# Altium schematic symbol library Discrete.SchLib: 66 symbols
Pins are listed as number, name and electrical type; pins without a type are passive.

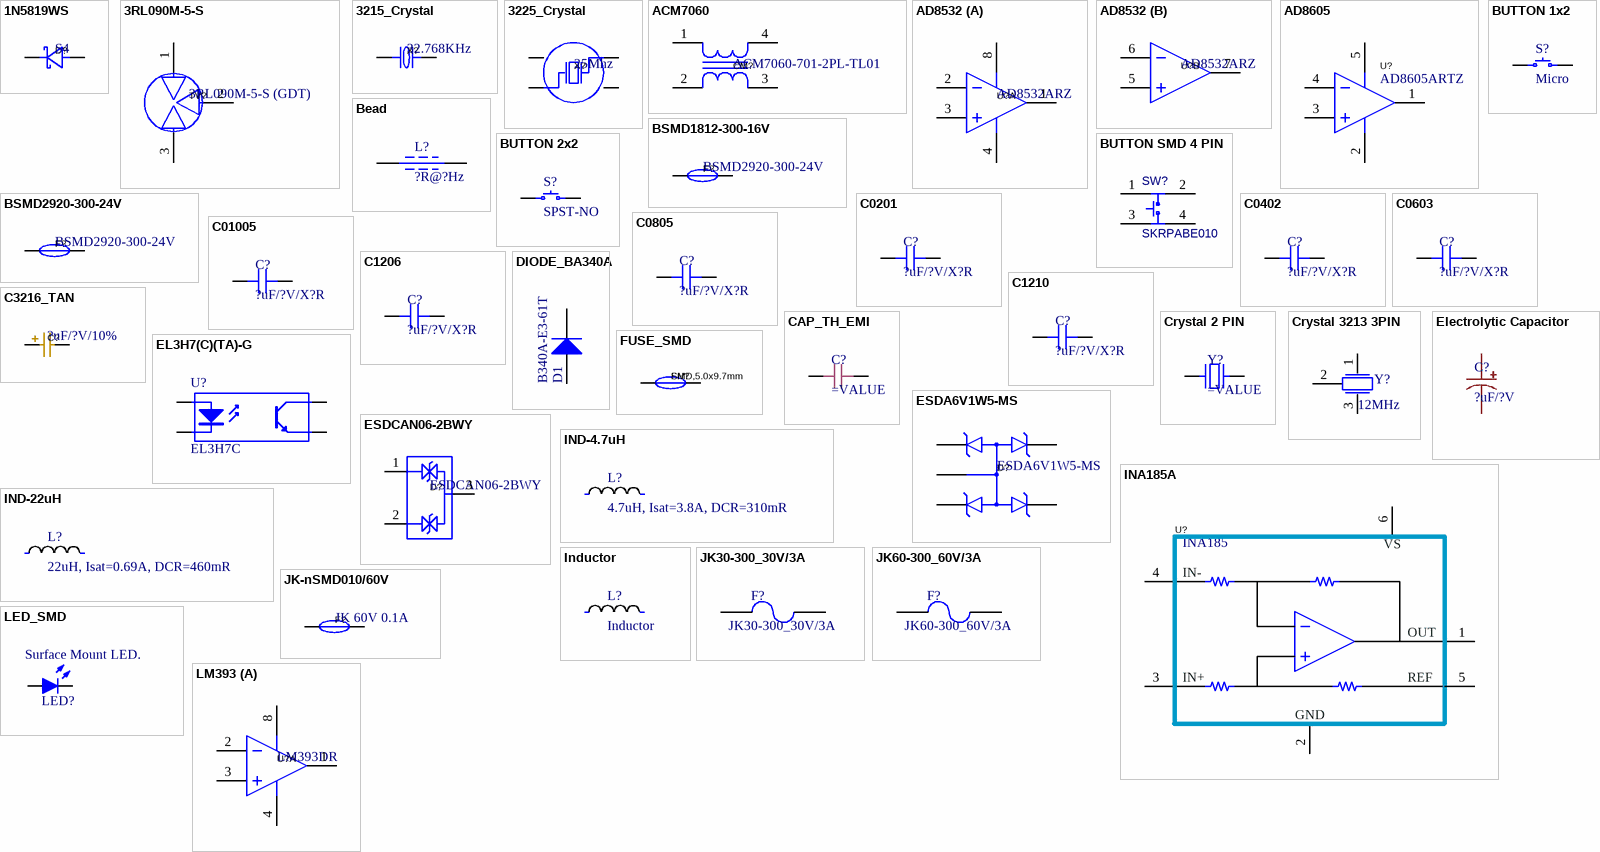
[diagram p0: symbols 1N5819WS to LM393]

## 1N5819WS
designator D?, comment S4
Schottky Diode 1N5819 , S4; Manufacturer: JSMSEMI(杰盛微); Symbol: 1N5819WS S4; Device: 1N5819WS S4_C2927280; Add into BOM: yes; Diode Configuration: 独立式; Forward Voltage (Vf@If): 600mV@200mA; Reverse Voltage (Vr): 40V; Average Rectified Current (Io): 350mA; Reverse Leakage Current (Ir): 5uA@30V; Supplier: LCSC; Supplier Part: C2927280; Manufacturer Part: 1N5819WS S4; JLCPCB Part Class: Extended Part; LCSC Part Name: 电压:40V 电流:350mA; Supplier Footprint: SOD-323; Datasheet: https://atta.szlcsc.com/upload/public/pdf/source/20211230/020DF3ABCB41CBA5E28580D63AFB2CA3.pdf; Convert to PCB: yes; LCSC#: *
footprint SOD-323
pins: 1 C, 2 A

## 3RL090M-5-S
designator TV?, comment 3RL090M-5-S (GDT)
Gas Discharge Tube; Manufacturer: Brightking(君耀电子); Add into BOM: yes; Number of Poles: 3; DC Spark-over Voltage: 90V; Tolerance: ±20%; Nominal Impulse Discharge Current: 5kA; Maximum Capacitance @ 1MHz: 2pF; Name: 3RL090M-5-S; Symbol: 3RL090M-5-S; Device: 3RL090M-5-S; LCSC Part Name: 90V 5kA 3端贴片GDT; Supplier Part: C78322; Manufacturer Part: 3RL090M-5-S; Supplier Footprint: SMD,5x6.6mm; JLCPCB Part Class: Extended Part; Datasheet: https://atta.szlcsc.com/upload/public/pdf/source/20160709/1468031850741.pdf; Supplier: LCSC; Convert to PCB: yes; LCSC#: *
footprint DIO-DT-SMD
pins: 1, 2, 3

## 3215_Crystal
designator X?, comment 32.768KHz
3215 Surface mount crystal oscillator.; Manufacturer: EPSON(爱普生); Manufacturer Part: Q13FC13500004; Symbol: Q13FC1350000400; Device: Q13FC13500004_C32346; Add into BOM: yes; Crystal Type: 贴片晶振; Normal temperature Frequency Tolerance: ±20ppm; External load capacitor: 12.5pF; Equivalent Series Resistance (ESR): 70kΩ; LCSC Part Name: 32.768kHz ±20ppm 12.5pF; Supplier Part: C32346; Supplier Footprint: SMD3215-2P; JLCPCB Part Class: Basic Part; Datasheet: https://atta.szlcsc.com/upload/public/pdf/source/20190108/C32346_746D6B07EAF90824457A96480007685F.pdf; Supplier: LCSC; Convert to PCB: yes; Value: 32.768kHz; Operating Temperature: -40℃~+85℃; LCSC#: *
footprint 3215_Crystal
pins: 1, 2

## 3225_Crystal
designator X?, comment 25Mhz
25Mhz 3225 surface mount crystal oscillator.; Manufacturer: EPSON(爱普生); Symbol: X1E000021013912; Device: X1E0000210139; Add into BOM: yes; Crystal Type: 贴片晶振; Normal temperature Frequency Tolerance: ±10ppm; External load capacitor: 12pF; Equivalent Series Resistance (ESR): 40Ω; LCSC Part Name: 25MHz ±10ppm 12pF; Supplier Part: C91750; Manufacturer Part: X1E0000210139; Supplier Footprint: SMD3225-4P; JLCPCB Part Class: Extended Part; Datasheet: https://atta.szlcsc.com/upload/public/pdf/source/20180822/C255942_D265278E6344B989D9430C320788A855.pdf; Supplier: LCSC; Convert to PCB: yes; Value: 25MHz; Operating Temperature: -40℃~+85℃; LCSC#: *
footprint 3225_CRYSTAL
pins: 1 OSC1, 2 GND, 3 OSC2, 4 GND

## ACM7060
designator CM?, comment ACM7060-701-2PL-TL01
Common mode choke Rated 80V 5A.; Manufacturer: TDK; Add into BOM: yes; Number of Lines: 2; Withstanding Voltage: 125V; Current Rating: 4A; Impedance @ Frequency: 700Ω@100MHz; DC Resistance (DCR): 15mΩ; Symbol: ACM7060-701-2PL-TL01; Device: ACM7060-701-2PL-TL01; LCSC Part Name: 两路 贴片共模滤波器 阻抗700Ω@100MHz; Supplier Part: C78246; Manufacturer Part: ACM7060-701-2PL-TL01; Supplier Footprint: SMD,7x6mm; JLCPCB Part Class: Extended Part; Datasheet: https://atta.szlcsc.com/upload/public/pdf/source/20160920/1474351323872.pdf; Supplier: LCSC; Convert to PCB: yes; Voltage Rating - DC: 80V; Operating Temperature: -40℃~+85℃; LCSC#: *
footprint FILTER-SMD_4P-L7.0-W6.0
pins: 1, 2, 3, 4

## AD8532
designator U?, comment AD8532ARZ
250mA Output , 5V/uS , 750uA per Channel. 3MHz; Manufacturer: MAXIM(美信); Symbol: MAX44248ASA+T; Add into BOM: yes; Number of Circuits: 2; Device: MAX44248ASA+T; LCSC Part Name: MAX44248ASA; Supplier Part: C92065; Manufacturer Part: MAX44248ASA+T; Supplier Footprint: SO-8; JLCPCB Part Class: Extended Part; Datasheet: https://atta.szlcsc.com/upload/public/pdf/source/20170105/1483610783114.pdf; Supplier: LCSC; Convert to PCB: yes; LCSC#: *
footprint SOIC-8
part A pins: 1 OUTA, 2 INA-, 3 INA+, 4 VSS, 8 VDD
part B pins: 5 INB+, 6 INB-, 7 OUTB

## AD8605
designator U?, comment AD8605ARTZ
Precision Op-Amp Vos 65uV 5v/us 10MHz; Manufacturer: ADI; Device: AD8605ARTZ-REEL; Add into BOM: yes; Number of Circuits: 2; Symbol: AD8605ARTZ; LCSC Part Name: AD8605ARTZ-REEL; Supplier Part: C578772; Manufacturer Part: AD8605ARTZ-REEL; Supplier Footprint: SO-8; JLCPCB Part Class: Extended Part; Datasheet: https://www.analog.com/media/en/technical-documentation/data-sheets/AD8605_8606_8608.pdf; Supplier: LCSC; Convert to PCB: yes; LCSC#: *
footprint SOT-23-5
pins: 1 OUTA, 2 VSS, 3 INA+, 4 INA-, 5 VDD

## Bead
designator L?, comment ?R@?Hz
Ferrite Bead.; LCSC#: *
footprint 0603_L
footprint 0805_L
footprint 0402_L
footprint 0201_L
pins: 1, 2

## BSMD1812-300-16V
designator F?, comment BSMD2920-300-24V
Resettable fuse, 16V , 40A max , Residual Current 3A , ,Jump current 6A; LCSC#: C883162
footprint F1812
pins: 1, 2

## BSMD2920-300-24V
designator F?
BSMD2920 SMD Resstable Fuse , Voltage rating 24V , Continous 3A; Add into BOM: yes; Symbol: BSMD2920-300-24V; Device: BSMD2920-300-24V; Supplier Part: C2977527; JLCPCB Part Class: Extended Part; Supplier: LCSC; Convert to PCB: yes; LCSC#: *
3D model F1206_L3.2-W1.7-H0.6
footprint F2920
pins: 1, 2

## BUTTON 1x2
designator S?, comment Micro
3040 Micro button.; LCSC#: *
footprint BUTTON_SMD_3040
pins: 1, 2

## BUTTON 2x2
designator S?, comment SPST-NO
Legacy Button 2x2 4pin.; LCSC#: *
footprint BUTTON TE FSM4JSMA
pins: 1, 2, 3, 4

## BUTTON SMD 4 PIN
designator SW?, comment SKRPABE010
Surface Mount Button; LCSC#: *
footprint BUTTON SMD 4P_L4.20-W3.20
pins: 1, 2, 3, 4

## C0201
designator C?, comment ?uF/?V/X?R
0201 SMT Capacitor; LCSC#: *
footprint 0402_C
footprint 0201_C
pins: 1, 2

## C0402
designator C?, comment ?uF/?V/X?R
0402 SMT Capacitor; LCSC#: *
footprint 0402_C
pins: 1, 2

## C0603
designator C?, comment ?uF/?V/X?R
0603 SMT Capacitor; LCSC#: *
footprint 0603_C
pins: 1, 2

## C0805
designator C?, comment ?uF/?V/X?R
0805 SMT Capacitor; LCSC#: *
footprint 0805_C
pins: 1, 2

## C01005
designator C?, comment ?uF/?V/X?R
01005 SMT Capacitor; LCSC#: *
footprint 0402_C
footprint 0201_C
footprint 01005_C
pins: 1, 2

## C1206
designator C?, comment ?uF/?V/X?R
1206 SMT Capacitor; LCSC#: *
footprint 1206_C
pins: 1, 2

## C1210
designator C?, comment ?uF/?V/X?R
1210 SMT Capacitor; LCSC#: *
footprint 1210_C
pins: 1, 2

## C3216_TAN
designator C?, comment ?uF/?V/10%
General Tantalum capacitor; Manufacturer: Kyocera AVX; Symbol: TAJA225K016RNJ; Add into BOM: yes; Value: 2.2uF; Tolerance: ±10%; Rated Voltage: 16V; Equivalent Series Resistance(ESR): 6.5Ω@100kHz; Device: TAJA225K016RNJ; LCSC Part Name: 2.2uF ±10% 16V; Supplier Part: C7180; Manufacturer Part: TAJA225K016RNJ; Supplier Footprint: CASE-A-3216; JLCPCB Part Class: Extended Part; Datasheet: https://atta.szlcsc.com/upload/public/pdf/source/20160107/1457707750344.pdf; Supplier: LCSC; Convert to PCB: yes; Operating Temperature: -55℃~+125℃; LCSC#: *
footprint 3216_C_TAN (3216 Tantalum capacitor)
pins: 1, 2

## CAP_TH_EMI
designator C?
Through Hole Capacitor - Thin Film , LC Resonance Capacitor; LCSC#: *
footprint CAP-TH_L7.2-W3.5
pins: 1, 2

## Crystal 2 PIN
designator Y?
SMT Crystal; LCSC#: *
footprint Crystal 2PIn (Crystal, 2-Leads, Body 1.20x2.00mm, Pitch 1.50mm, IPC Medium Density)
pins: 1, 2

## Crystal 3213 3PIN
designator Y?, comment 12MHz
Crystal 3213 3pin, no external compensation capacitors needed.; LCSC#: *
footprint SMD3213_3P
pins: 1, 2, 3

## DIODE_BA340A
designator D1, comment B340A-E3-61T
Diode; ComponentLink1Description: 供应商链接; ComponentLink1URL: http://www.szlcsc.com/product/details_23178.html; Package: SMA(DO-214AC); Supplier: LC; SuppliersPartNumber: C22452; LCSC#: *
footprint SMA(DO-214AC)_S1
pins: 1 A, 2 K

## EL3H7(C)(TA)-G
designator U?, comment EL3H7C
Surface mount photocoupler.; ComponentLink1Description: 供应商链接; ComponentLink1URL: http://www.szlcsc.com/product/details_7114.html; Package: SOP-4_P2.54; Supplier: LC; SuppliersPartNumber: C6649; LCSC#: *
footprint LC-SOP-4_P1.27
pins: 1 A "Anode", 2 K "Cathode", 3 E "Emitter", 4 C "Collector"

## Electrolytic Capacitor
designator C?, comment ?uF/?V
Electrolytic Capacitor; LCSC#: *
footprint CAP-SMD_4x5.4mm
footprint CAP-SMD_6.3X7.7MM
footprint CAP-SMD_10X10.5MM
footprint CAP-TH_BD10.0-P5.00-D1.0MM
pins: 1, 2

## ESDA6V1W5-MS
designator D?
Four channel ESD. Vrwm = 5V , Vbr = 7.5V; Manufacturer: ST(意法半导体); Add into BOM: yes; polarity: 单向; Reverse Stand-Off Voltage (Vrwm): 3V; Maximum Clamping Voltage: 6.1V; Peak Pulse Power Dissipation (Ppp)@10/1000us: 150W; Number of Lines: 四路; Type: ESD; Symbol: ESDA6V1W5; Device: ESDA6V1W5; LCSC Part Name: 单向ESD; Supplier Part: C48677; Manufacturer Part: ESDA6V1W5; Supplier Footprint: SOT-323-5; JLCPCB Part Class: Extended Part; Datasheet: https://atta.szlcsc.com/upload/public/pdf/source/20150504/1457707285209.pdf; Supplier: LCSC; Convert to PCB: yes; Breakdown Voltage: 6.1V; Operating Temperature: -40℃~+125℃@(Tj); LCSC#: *
footprint SOT-23-5
pins: 1, 2, 3, 4, 5

## ESDCAN06-2BWY
designator D?
ESD protection, Dual Line TVS. Vrm = 35v  Vbr =42.2v; Manufacturer: ST(意法半导体); Add into BOM: yes; Maximum Clamping Voltage: 59V; Peak Pulse Current (Ipp)@10/1000us: 3A@(8/20us); Peak Pulse Power Dissipation (Ppp)@10/1000us: 170W; Breakdown Voltage: 38V; Number of Lines: 双路; Symbol: ESDCAN06-2BWY; Device: ESDCAN06-2BWY; Supplier: LCSC; Supplier Part: C1973761; Manufacturer Part: ESDCAN06-2BWY; JLCPCB Part Class: Extended Part; LCSC Part Name: ESDCAN06-2BWY; Supplier Footprint: SOT-323-3; Datasheet: https://atta.szlcsc.com/upload/public/pdf/source/20210601/EE22EC2D769ED57BA217B6DB28AAC84F.pdf; Convert to PCB: yes; Reverse Stand-Off Voltage (Vrwm): 35V; Operating Temperature: -55℃~+175℃@(Tj); Type: ESD; LCSC#: *
footprint SOT-23-3
pins: 1, 2, 3

## FUSE_SMD
designator FH?, comment SMD,5.0x9.7mm
Surface mount Fuse Socket, Replaceable.; Manufacturer: Littelfuse(美国力特); Symbol: 01550900M; Add into BOM: yes; Device: 01550900M; LCSC Part Name: 01550900M; Supplier Part: C108518; Manufacturer Part: 01550900M; Supplier Footprint: SMD,5.0x9.7mm; JLCPCB Part Class: Extended Part; Datasheet: https://atta.szlcsc.com/upload/public/pdf/source/20181031/C315847_D8C8759CD5ED576C0EA975A2D5312378.pdf; Supplier: LCSC; Convert to PCB: yes; Fuseholder Type: -; Fuse Type: -; Fuse Size: -; LCSC#: *
footprint FUSE-SMD_L9.8-W5.0
pins: 1, 2

## INA185A
designator U?, comment INA185A1  (value not drawn)
Precision CSA , Slew  2V/us , 350 KHz , 20V/V; Manufacturer: TI; Manufacturer Part: INA185A1IDRLR; Symbol: INA185; Add into BOM: yes; Number of Circuits: 1; Device: INA185; LCSC Part Name: INA185A1IDRLR; Supplier Part: C2059314; Supplier Footprint: SOT-563; JLCPCB Part Class: Extended Part; Datasheet: https://www.ti.com/lit/ds/symlink/ina185.pdf?ts=1726969074419; Supplier: LCSC; Convert to PCB: yes; LCSC#: *
footprint SOT-563
pins: 1 OUT, 2 GND, 3 IN+, 4 IN-, 5 REF, 6 VS

## IND-4.7uH
designator L?, comment 4.7uH, Isat=3.8A, DCR=310mR
SMD,7.5x7.5mm 4.7uH, Isat=3.8A, DCR=310mR Shielded Inductor.
footprint IND-SMD_L7.5-W7.5
pins: 1, 2

## IND-22uH
designator L?, comment 22uH, Isat=0.69A, DCR=460mR
SMD,3x3mm 22uH, Isat=0.69A, DCR=460mR Shielded Inductor.; LCSC#: C167883
footprint IND-SMD_L3.0-W3.0
footprint IND-SMD_L13.8-W12.8
pins: 1, 2

## Inductor
designator L?
User selectable inductor
footprint IND-SMD_0420
footprint IND-SMD_1040
pins: 1, 2

## JK30-300_30V/3A
designator F?
THC Resettable Fuse. PTC
footprint FUSE-TH_L13.0-W3.1-P5.08-D1.2
pins: 1, 2

## JK60-300_60V/3A
designator F?
THC Resettable Fuse. PTC
footprint FUSE-TH_L20.6-W3.1-P10.20-D0.8-S2.00
pins: 1, 2

## JK-nSMD010/60V
designator F?, comment JK 60V 0.1A
SMD Resettable Fuse. PTC; Manufacturer: JK(金科); Name: JK-nSMD010/60V; Add into BOM: yes; Symbol: JK-NSMD010/60V; Device: JK-nSMD010/60V; LCSC Part Name: 100mA 60V; Supplier Part: C2830236; Manufacturer Part: JK-nSMD010/60V; Supplier Footprint: SMD1206; JLCPCB Part Class: Extended Part; Datasheet: https://atta.szlcsc.com/upload/public/pdf/source/20210427/C2830251_B9511B640A50AD6A91174E2DDDD254CA.pdf; Supplier: LCSC; Convert to PCB: yes
footprint F1206
3D model F1206_L3.2-W1.7-H0.6
pins: 1, 2

## LED_SMD
designator LED?, comment Surface Mount LED.
Surface mount Light emitting diode.; MPN: LTST-C191TBKT-5A; MF: Lite-On; Current rating: 20mA; Colour: Blue; LCSC#: *
footprint 0402_LED
footprint 0603_LED
pins: A, C K

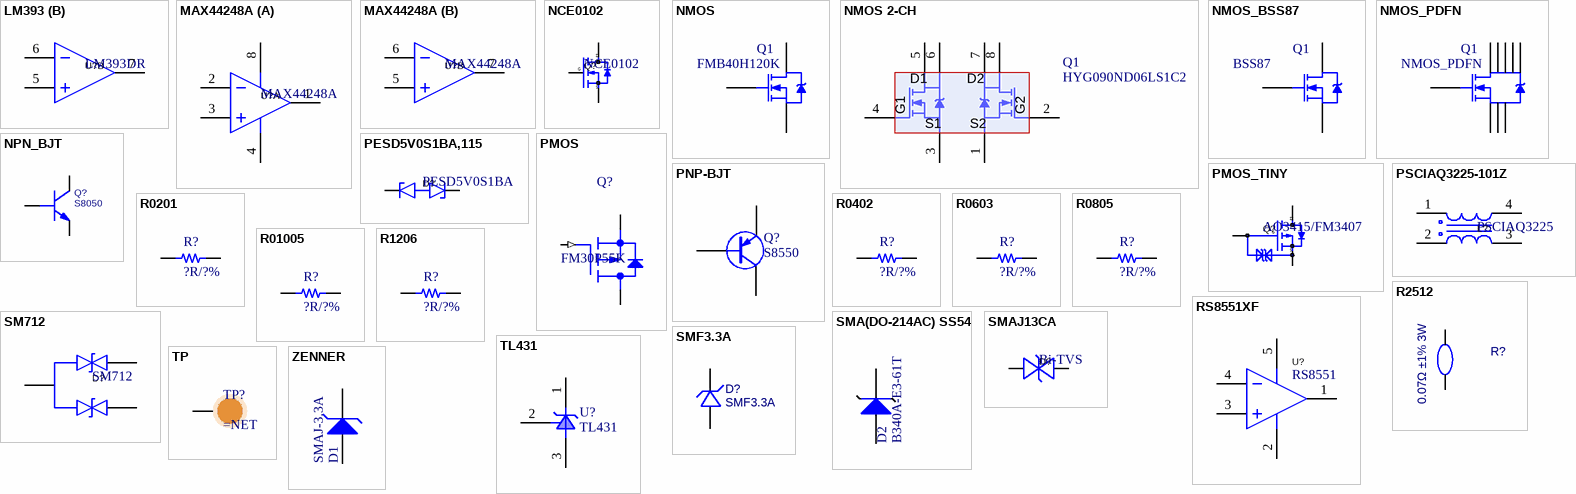
[diagram p1: symbols LM393 to ZENNER]

## LM393
designator U?, comment LM393DR
Comparator LM393 , 5mV Vos , V+ = Vcc-1.5V , V- = 0V , 1mA; Manufacturer: MAXIM(美信); Symbol: MAX44248ASA+T; Add into BOM: yes; Number of Circuits: 2; Device: MAX44248ASA+T; LCSC Part Name: MAX44248ASA; Supplier Part: C92065; Manufacturer Part: MAX44248ASA+T; Supplier Footprint: SO-8; JLCPCB Part Class: Extended Part; Datasheet: https://atta.szlcsc.com/upload/public/pdf/source/20170105/1483610783114.pdf; Supplier: LCSC; Convert to PCB: yes; LCSC#: *
footprint SO-8
part A pins: 1 OUTA, 2 INA-, 3 INA+, 4 VSS, 8 VDD
part B pins: 5 INB+, 6 INB-, 7 OUTB

## MAX44248A
designator U?
Precision Op-Amp with Vos 2uV; Manufacturer: MAXIM(美信); Symbol: MAX44248ASA+T; Add into BOM: yes; Number of Circuits: 2; Device: MAX44248ASA+T; LCSC Part Name: MAX44248ASA; Supplier Part: C92065; Manufacturer Part: MAX44248ASA+T; Supplier Footprint: SO-8; JLCPCB Part Class: Extended Part; Datasheet: https://atta.szlcsc.com/upload/public/pdf/source/20170105/1483610783114.pdf; Supplier: LCSC; Convert to PCB: yes; LCSC#: *
footprint SO-8
footprint UMAX-8
part A pins: 1 OUTA, 2 INA-, 3 INA+, 4 VSS, 8 VDD
part B pins: 5 INB+, 6 INB-, 7 OUTB

## NCE0102
designator Q?
N-Channel MOSFET, Rds < 240m Ohm; LCSC#: *
footprint SOT-23-3
pins: 1 G, 2 S, 3 D

## NMOS
designator Q1, comment FMB40H120K
N-Channel Power MOSFET; LCSC#: *
footprint LC-TO-252-2
footprint SOT-23-3
pins: 1 G, 2 S, 3 D

## NMOS 2-CH
designator Q1, comment HYG090ND06LS1C2
2-Channel N-MOSFET.; LCSC#: *
footprint PDFN-8
pins: 1 S2, 2 G2, 3 S1, 4 G1, 5 D1, 6 D1, 7 D2, 8 D2

## NMOS_BSS87
designator Q1, comment BSS87
200V N-Channel D-MOS Transistor.; LCSC#: *
footprint SOT-89
footprint SOT-23-3
pins: 1 S, 2 D, 3 G

## NMOS_PDFN
designator Q1
N-Channel Power MOSFET; LCSC#: *
footprint PDFN-8_L5.8-W5.0
pins: 1 S, 2 S, 3 S, 4 G, 5 D, 6 D, 7 D, 8 D, 9 D

## NPN_BJT
designator Q?, comment S8050
Surface mount NPN Transistor.; LCSC#: *
footprint SOT-23-3
pins: 1 BASE, 2 EMITTER, 3 COLLECTOR

## PESD5V0S1BA,115
designator D?, comment PESD5V0S1BA
Bidirectional TVS, 14.5V; Manufacturer: Nexperia(安世); Symbol: PESD5V0S1BA,115; Add into BOM: yes; polarity: 双向; Reverse Stand-Off Voltage (Vrwm): 5V; Maximum Clamping Voltage: 14V; Peak Pulse Current (Ipp)@10/1000us: 12A; Peak Pulse Power Dissipation (Ppp)@10/1000us: 130W; Breakdown Voltage: 5.5V; Device: PESD5V0S1BA,115; Supplier: LCSC; Manufacturer Part: PESD5V0S1BA,115; Supplier Part: C19224; JLCPCB Part Class: Extended Part; LCSC Part Name: PESD5V0S1BA,115; Supplier Footprint: SOD-323; Datasheet: https://atta.szlcsc.com/upload/public/pdf/source/20161024/1477288630856.pdf; Convert to PCB: yes; Type: TVS; LCSC#: *
footprint SOD-323_BiD
pins: 1, 2

## PMOS
designator Q?, comment FM30P55K
P-Channel Power MOSFET.; LCSC#: *
footprint LC-TO-252-2
pins: 1 G (in), 2 S, 3 D

## PMOS_TINY
designator Q?, comment AO3415/FM3407
LCSC#: *
footprint SOT-23-3
pins: 1 G, 2 S, 3 D

## PNP-BJT
designator Q?, comment S8550
Surface mount PNP Transistor.; LCSC#: *
footprint SOT-23-3
pins: 1 B, 2 E, 3 C

## PSCIAQ3225-101Z
designator L?, comment PSCIAQ3225
Common mode choke - 5.1KOhm @ 10Mhz. For CAN Bus FIltering.; Manufacturer: PROD(谱罗德); Name: PSCIAQ3225-101Z; Add into BOM: yes; Number of Lines: 2; Impedance @ Frequency: 5.1kΩ@10MHz; Inductance @ Frequency: 100uH@100kHz; Current Rating: 150mA; DC Resistance (DCR): 1.5Ω; Voltage Rating - DC: 80V; Voltage Rating: 80VAC; Symbol: PSCIAQ3225-101Z; Device: PSCIAQ3225-101Z; LCSC Part Name: 两路 1210共模滤波器 阻抗5.1kΩ@10MHz; Supplier Part: C3011568; Manufacturer Part: PSCIAQ3225-101Z; Supplier Footprint: 1210; JLCPCB Part Class: Extended Part; Datasheet: https://atta.szlcsc.com/upload/public/pdf/source/20221209/0F115E7BC87283E32C2A7BCB65AC9CDC.pdf; Supplier: LCSC; Convert to PCB: yes; Operating Temperature: -25℃~+105℃; Withstanding Voltage: 80V; LCSC#: *
footprint FILTER-SMD_4P
pins: 1, 2, 3, 4

## R0201
designator R?, comment ?R/?%
0201 SMT Resistor; LCSC#: *
footprint 0402_R
footprint 0201_R
pins: 1, 2

## R0402
designator R?, comment ?R/?%
0402 SMT Resistor; LCSC#: *
footprint 0402_R
pins: 1, 2

## R0603
designator R?, comment ?R/?%
0603 SMT Resistor; LCSC#: *
footprint 0603_R
pins: 1, 2

## R0805
designator R?, comment ?R/?%
0805 SMT Resistor; LCSC#: *
footprint 0805_R
pins: 1, 2

## R01005
designator R?, comment ?R/?%
01005 SMT Resistor; LCSC#: *
footprint 0402_R
footprint 0201_R
footprint 01005_R
pins: 1, 2

## R1206
designator R?, comment ?R/?%
1206 SMD Resistor; LCSC#: *
footprint 1206_R
pins: 1, 2

## R2512
designator R?, comment 0.07Ω ±1% 3W
2512 Current Sense Resistor.; nameAlias: Value(Ω); Contributor: LCEDA_Lib; spicePre: R; spiceSymbolName: R_0603_EU; LCSC#: *
footprint 2512_R
pins: 1, 2

## RS8551XF
designator U?, comment RS8551
Zero drift , Rail to rail , 1uV Vos , 2.7V/us , CMRR130dB; Manufacturer: ADI; Symbol: AD8605ARTZ; Device: AD8605ARTZ-REEL; Add into BOM: yes; Number of Circuits: 2; LCSC Part Name: AD8605ARTZ-REEL; Supplier Part: C578772; Manufacturer Part: AD8605ARTZ-REEL; Supplier Footprint: SO-8; JLCPCB Part Class: Extended Part; Datasheet: https://www.analog.com/media/en/technical-documentation/data-sheets/AD8605_8606_8608.pdf; Supplier: LCSC; Convert to PCB: yes; LCSC#: *
footprint SOT-23-5
pins: 1 OUTA, 2 VSS, 3 INA+, 4 INA-, 5 VDD

## SM712
designator D?
Dual channel ESD discharger; Manufacturer: TECH PUBLIC(台舟); Symbol: SM712_C521963; Add into BOM: yes; Name: SM712; Device: SM712_C521963; LCSC Part Name: SM712; Supplier Part: C521963; Manufacturer Part: SM712; Supplier Footprint: SOT-23; JLCPCB Part Class: Extended Part; Datasheet: https://atta.szlcsc.com/upload/public/pdf/source/20210810/E76C7C1824B0CB2A5B8963B3ABCE2DCE.pdf; Supplier: LCSC; Convert to PCB: yes; LCSC#: *
footprint SOT-23-3
pins: 1, 2, 3

## SMA(DO-214AC) SS54
designator D2, comment B340A-E3-61T
SS54 Schottky Rectifier; ComponentLink1Description: 供应商链接; ComponentLink1URL: http://www.szlcsc.com/product/details_23178.html; Package: SMA(DO-214AC); Supplier: LC; SuppliersPartNumber: C22452; LCSC#: *
footprint SMA(DO-214AC)_S1
pins: 1 A, 2 K

## SMAJ13CA
designator D?, comment Bi-TVS
Bidirectional TVS; Manufacturer: Slkor(萨科微); Name: SMAJ13CA; Symbol: SMAJ13CA_C513473; Add into BOM: yes; Polarity: 双向; Reverse Stand-Off Voltage (Vrwm): 13V; Breakdown Voltage: 14.4V; Peak Pulse Current (Ipp)@10/1000μs: 18.6A; Maximum Clamping Voltage: 21.5V; Device: SMAJ13CA_C513473; LCSC Part Name: 双向 Vrwm:13V; Supplier Part: C513473; Manufacturer Part: SMAJ13CA; Supplier Footprint: SMA; JLCPCB Part Class: Extended Part; Datasheet: https://atta.szlcsc.com/upload/public/pdf/source/20200414/C513473_E63E0FD439519C3FF443B186760FCA0C.pdf; Supplier: LCSC; Convert to PCB: yes; LCSC#: *
footprint SMA-BI
pins: 1 C, 2 A

## SMF3.3A
designator D?
TVS/ESD Vrwm 3.3V.; BOM_Manufacturer: DOWO; Contributor: LCSC; BOM_Supplier: LCSC; BOM_Supplier Part: C283866; BOM_Manufacturer Part: SMF3.3A; BOM_JLCPCB Part Class: Extended Part; spicePre: D; spiceSymbolName: SMF3.3A; LCSC#: *
footprint SOD-123
pins: 1, 2

## TL431
designator U?
TL431 Precision Programmable Reference; ComponentLink1Description: 供应商链接; ComponentLink1URL: http://www.szlcsc.com/product/details_3500.html; Package: SOT-23; Supplier: LC; SuppliersPartNumber: C3113; LCSC#: *
footprint SOT-23-3
pins: 1 K, 2 R, 3 A

## TP
designator TP?
General Test point.
footprint TP_1.2mm (1.2mm Round Testpoint. (Industry standard size))
pins: 1

## ZENNER
designator D1, comment SMAJ-3.3A
Zenner Diode; LCSC#: *
footprint SMA(DO-214AC)_S1
footprint SOD-123
pins: 1 A, 2 K